# Altium footprint library Crystal.PcbLib: 10 footprints
Each footprint in its own frame and in the unit in brackets; x right, y up, seen from the top. Pads: shape width x height; smd on the part's side, far side on the other; paste and mask are expansions set on the pad; w line width, h text height; cw(c..) or ccw(c..) is an arc to the next point about the centre after c.
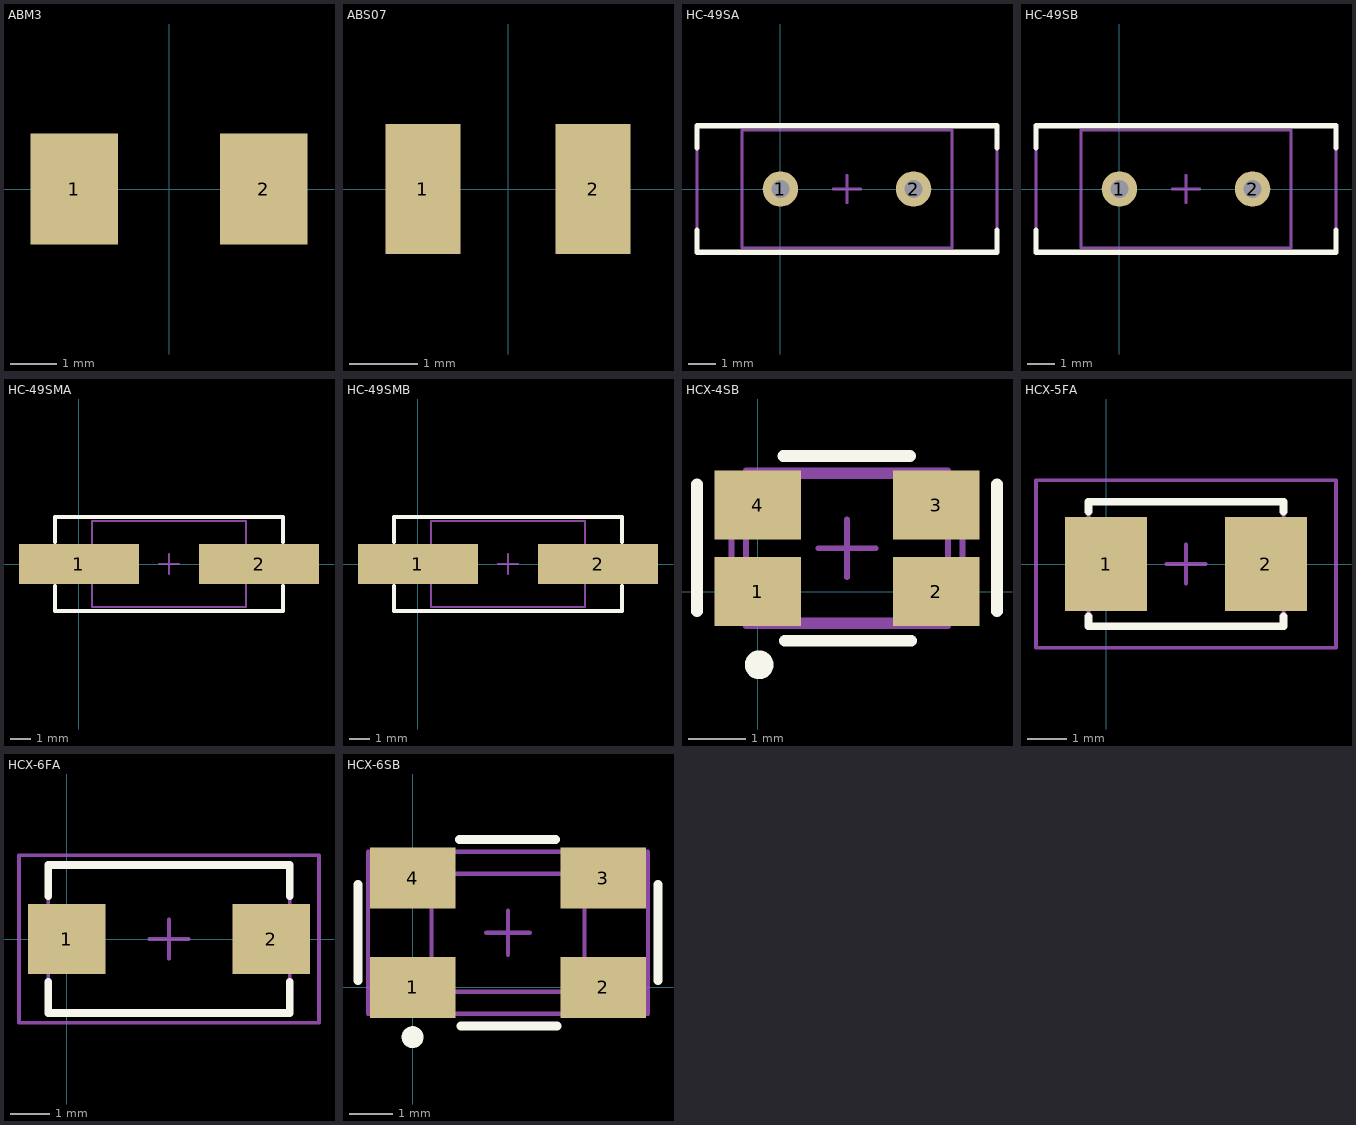
[diagram p0: the footprints below, top view; thin cyan lines are the x and y axes]

## ABM3 [mm] "MINIATURE CERAMIC SMD CRYSTAL"
height 1.3
pads (2):
  rect 1.9x2.4 smd: 1(-2.05,0) 2(2.05,0)
3D body "ABM3.STEP": height 1.3, standoff 0, extent -2.5,-1.6 2.5,1.6

## ABS07 [mm] "MINIATURE CERAMIC SMD CRYSTAL"
height 0.9
pads (2):
  rect 1.1x1.9 smd: 1(-1.25,0) 2(1.25,0)
3D body "ABS07.STEP": height 0.89, standoff 0, extent -1.6,-0.749 1.6,0.749

## HC-49SA [mm] "LOW PROFILE HOLDER TYPE CRYSTAL UNITS"
height 3.5
pads (2):
  round 1.3 hole 0.65: 1(0,0) 2(4.88,0)
Top Overlay:
  lines w0.2: -3.06,-1.52 -3.06,-2.32 7.94,-2.32 7.94,-1.52 ; -3.06,1.52 -3.06,2.32 7.94,2.32 7.94,1.52
Mechanical 13:
  lines w0.1: -3.06,-2.32 -3.06,2.32 7.94,2.32 7.94,-2.32 -3.06,-2.32
Mechanical 15:
  lines w0.1: 1.94,0 2.94,0 ; 2.44,-0.5 2.44,0.5 ; -1.41,-2.15 6.29,-2.15 6.29,2.15 -1.41,2.15 -1.41,-2.15
3D body "SW3dPS-HC49S.STEP": height 3.63, standoff -1.97, extent -3.149,-2.299 8.023,2.373

## HC-49SB [mm] "LOW PROFILE HOLDER TYPE CRYSTAL UNITS"
height 2.5
pads (2):
  round 1.3 hole 0.65: 1(0,0) 2(4.88,0)
Top Overlay:
  lines w0.2: -3.06,-1.52 -3.06,-2.32 7.94,-2.32 7.94,-1.52 ; -3.06,1.52 -3.06,2.32 7.94,2.32 7.94,1.52
Mechanical 13:
  lines w0.1: -3.06,-2.32 -3.06,2.32 7.94,2.32 7.94,-2.32 -3.06,-2.32
Mechanical 15:
  lines w0.1: 1.94,0 2.94,0 ; 2.44,-0.5 2.44,0.5 ; -1.41,-2.15 6.29,-2.15 6.29,2.15 -1.41,2.15 -1.41,-2.15
3D body "SW3dPS-HC49S.STEP": height 3.63, standoff -1.97, extent -3.138,-2.325 8.034,2.348

## HC-49SMA [mm] "SURFACE MOUNT CRYSTAL"
height 4.2
pads (2):
  rect 6x2 smd paste-0.051 mask+0: 1(0,0) 2(9,0)
Top Overlay:
  lines w0.2: -1.2,-1.1 -1.2,-2.35 10.2,-2.35 10.2,-1.1 ; -1.2,1.1 -1.2,2.35 10.2,2.35 10.2,1.1
Mechanical 13:
  lines w0.1: -1.2,-2.35 -1.2,2.35 10.2,2.35 10.2,-2.35 -1.2,-2.35
Mechanical 15:
  lines w0.1: 4,0 5,0 ; 4.5,-0.5 4.5,0.5 ; 0.65,-2.15 8.35,-2.15 8.35,2.15 0.65,2.15 0.65,-2.15
3D body: height 4.2, standoff 0, extent -1.2,-2.35 10.2,2.35

## HC-49SMB [mm] "SURFACE MOUNT CRYSTAL"
height 3.2
pads (2):
  rect 6x2 smd paste-0.051 mask+0: 1(0,0) 2(9,0)
Top Overlay:
  lines w0.2: -1.2,-1.1 -1.2,-2.35 10.2,-2.35 10.2,-1.1 ; -1.2,1.1 -1.2,2.35 10.2,2.35 10.2,1.1
Mechanical 13:
  lines w0.1: -1.2,-2.35 -1.2,2.35 10.2,2.35 10.2,-2.35 -1.2,-2.35
Mechanical 15:
  lines w0.1: 4,0 5,0 ; 4.5,-0.5 4.5,0.5 ; 0.65,-2.15 8.35,-2.15 8.35,2.15 0.65,2.15 0.65,-2.15
3D body: height 3.2, standoff 0, extent -1.2,-2.35 10.2,2.35

## HCX-4SB [mm] "Cristal de Quartzo em SMD"
height 1
pads (4):
  rect 1.5x1.2 smd paste-0.051 mask+0: 1(0,0) 2(3.1,0) 3(3.1,1.5) 4(0,1.5)
Top Overlay:
  circle w0.25: c0.028,-1.269 r0.125
  lines w0.2: -1.05,-0.342 -1.05,1.858 ; 0.442,2.35 2.642,2.35 ; 0.468,-0.85 2.668,-0.85 ; 4.15,-0.342 4.15,1.858
Mechanical 13:
  lines w0.1: -0.45,-0.5 3.55,-0.5 3.55,2 -0.45,2 -0.45,-0.5
Mechanical 15:
  lines w0.1: 1.05,0.75 2.05,0.75 ; 1.55,0.25 1.55,1.25 ; -0.2,-0.6 3.3,-0.6 3.3,2.1 -0.2,2.1 -0.2,-0.6
3D body: height 1.2, standoff 0, extent -0.45,-0.5 3.55,2

## HCX-5FA [mm] "SURFACE MOUNT CRYSTAL"
height 1.2
pads (2):
  rect 2.1x2.4 smd paste-0.051 mask+0: 1(0,0) 2(4.1,0)
Top Overlay:
  lines w0.2: -0.45,-1.35 -0.45,-1.6 4.55,-1.6 4.55,-1.35 ; -0.45,1.35 -0.45,1.6 4.55,1.6 4.55,1.35
Mechanical 13:
  lines w0.1: -0.45,-1.6 -0.45,1.6 4.55,1.6 4.55,-1.6 -0.45,-1.6
Mechanical 15:
  lines w0.1: 1.55,0 2.55,0 ; 2.05,-0.5 2.05,0.5 ; -1.8,-2.15 5.9,-2.15 5.9,2.15 -1.8,2.15 -1.8,-2.15
3D body: height 1.2, standoff 0, extent -0.45,-1.6 4.55,1.6

## HCX-6FA [mm] "SURFACE MOUNT CRYSTAL"
height 1.2
pads (2):
  rect 2x1.8 smd paste-0.051 mask+0: 1(0,0) 2(5.25,0)
Top Overlay:
  lines w0.2: -0.475,-1.1 -0.475,-1.9 5.725,-1.9 5.725,-1.1 ; -0.475,1.1 -0.475,1.9 5.725,1.9 5.725,1.1
Mechanical 13:
  lines w0.1: -0.475,-1.85 -0.475,1.85 5.725,1.85 5.725,-1.85 -0.475,-1.85
Mechanical 15:
  lines w0.1: 2.125,0 3.125,0 ; 2.625,-0.5 2.625,0.5 ; -1.225,-2.15 -1.225,2.15 6.475,2.15 6.475,-2.15 -1.225,-2.15
3D body: height 1.2, standoff 0, extent -0.475,-1.85 5.725,1.85

## HCX-6SB [mm] "Cristal de Quartzo em SMD"
height 1
pads (4):
  rect 1.95x1.4 smd paste-0.051 mask+0: 1(0,0) 2(4.35,0) 3(4.35,2.5) 4(0,2.5)
Top Overlay:
  circle w0.25: c-0.007,-1.138 r0.125
  lines w0.2: -1.254,0.158 -1.254,2.358 ; 1.067,3.384 3.267,3.384 ; 1.093,-0.884 3.293,-0.884 ; 5.604,0.158 5.604,2.358
Mechanical 13:
  lines w0.1: -1.025,-0.6 -1.025,3.1 5.375,3.1 5.375,-0.6 -1.025,-0.6
Mechanical 15:
  lines w0.1: 1.675,1.25 2.675,1.25 ; 2.175,0.75 2.175,1.75 ; 0.425,-0.1 0.425,2.6 3.925,2.6 3.925,-0.1 0.425,-0.1
3D body: height 1, standoff 0, extent -1.025,-0.6 5.375,3.1